# Altium footprint library connectors.PcbLib: 38 footprints (part 2 of 3)
Each footprint in its own frame and in the unit in brackets; x right, y up, seen from the top. Pads: shape width x height; smd on the part's side, far side on the other; paste and mask are expansions set on the pad; w line width, h text height; cw(c..) or ccw(c..) is an arc to the next point about the centre after c.
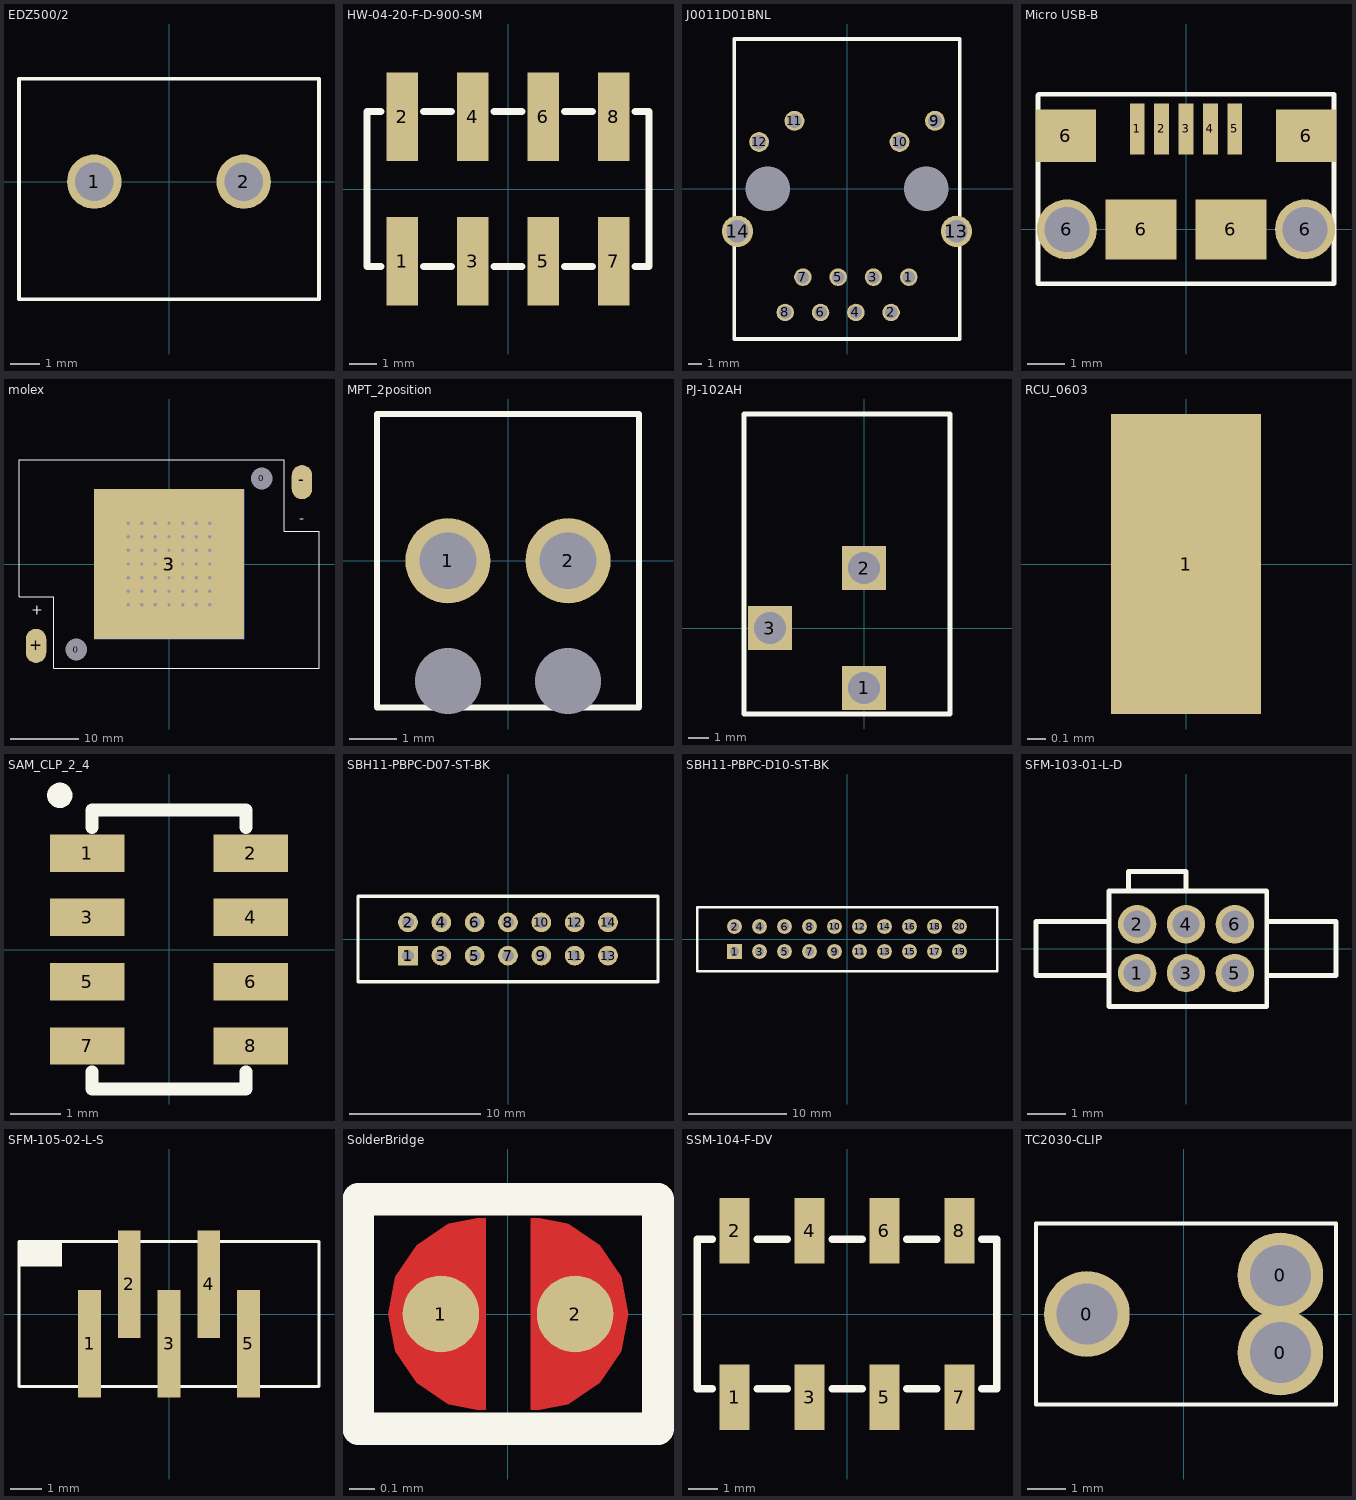
[diagram p1: the footprints below, top view; thin cyan lines are the x and y axes]

## EDZ500/2 [mm] "On Shore Tech. 200 mil, 2 pos, screw connector, blue"
pads (2):
  round 1.85 hole 1.3: 1(-2.54,0) 2(2.54,0)
Top Overlay:
  lines w0.127: -5.1,-4 5.1,-4 5.1,3.5 -5.1,3.5 -5.1,-4
3D body: height 10, standoff 0, extent -5.1,-4 5.1,3.5

## HW-04-20-F-D-900-SM [mm] "Samtec 100 mil 2x4 header"
pads (8):
  rect 1.14x3.175 smd: 1(-3.81,-2.602) 2(-3.81,2.603) 3(-1.27,-2.602) 4(-1.27,2.603) 5(1.27,-2.602) 6(1.27,2.603) 7(3.81,-2.602) 8(3.81,2.603)
Top Overlay:
  lines w0.254: -4.572,-2.794 -5.08,-2.794 -5.08,2.794 -4.572,2.794 ; -3.048,-2.794 -2.032,-2.794 ; -3.048,2.794 -2.032,2.794 ; -0.508,-2.794 0.508,-2.794 ; -0.508,2.794 0.508,2.794 ; 2.032,-2.794 3.048,-2.794 ; 2.032,2.794 3.048,2.794 ; 4.572,-2.794 5.08,-2.794 5.08,2.794 4.572,2.794
3D body: height 2.54, standoff 0, extent -5.08,-2.794 5.08,2.794
3D body: height 23, standoff 0, extent -4.115,0.965 -3.505,1.575
3D body: height 23, standoff 0, extent -1.575,0.965 -0.965,1.575
3D body: height 23, standoff 0, extent 0.965,0.965 1.575,1.575
3D body: height 23, standoff 0, extent 3.505,0.965 4.115,1.575
3D body: height 23, standoff 0, extent -4.115,-1.575 -3.505,-0.965
3D body: height 23, standoff 0, extent -1.575,-1.575 -0.965,-0.965
3D body: height 23, standoff 0, extent 0.965,-1.575 1.575,-0.965
3D body: height 23, standoff 0, extent 3.505,-1.575 4.115,-0.965

## J0011D01BNL [mm] "Pulse Electronic RJ45 Jack"
pads (16):
  round 1.26 hole 0.9: 1(4.445,-6.35) 2(3.175,-8.89) 3(1.905,-6.35) 4(0.635,-8.89) 5(-0.635,-6.35) 6(-1.905,-8.89) 7(-3.175,-6.35) 8(-4.445,-8.89)
  round 1.43 hole 1.02: 9(6.325,4.9) 10(3.785,3.38) 11(-3.785,4.9) 12(-6.325,3.38)
  round 2.25 hole 1.6: 13(7.875,-3.05) 14(-7.875,-3.05)
  round 0 hole 3.2: ""(-5.715,0) ""(5.715,0)
Top Overlay:
  lines w0.254: -8.13,-10.8 -8.13,10.79 8.13,10.79 8.13,-10.8 -8.13,-10.8
3D body: height 13.57, standoff -3.94, extent -8.321,-10.547 8.279,10.8

## Micro USB-B [mm]
pads (11):
  rect 0.4x1.35 smd mask+0.1: 1(-1.3,2.675) 2(-0.65,2.675) 3(0,2.675) 4(0.65,2.675) 5(1.3,2.675)
  rect 1.6x1.4 smd mask+0.1: 6(-3.2,2.5) 6(3.2,2.5)
  round 1.6 hole 1.2: 6(-3.175,0) 6(3.175,0)
  rect 1.9x1.6 smd mask+0.1: 6(-1.2,0) 6(1.2,0)
Top Overlay:
  lines w0.127: -3.95,-1.45 -3.95,3.575 -3.925,3.6 3.95,3.6 3.95,-1.45 -3.95,-1.45
3D body: height 2.68, standoff -0.63, extent -4.1,-2.54 4.1,2.89

## molex [mm] "CREE LED holder"
pads (6):
  oval 1.7x2.8 hole 3.175: 0(-13.61,-12.54) 0(13.61,12.54)
  rect 22x22 smd: 3(0,0)
  rect 22x22 smd far side: 3(0,0)
  oval 3x5 smd: +(-19.5,-12) -(19.5,12)
via 0,6 diameter 1.016 hole 0.508
via 2,6 diameter 1.016 hole 0.508
via 4,6 diameter 1.016 hole 0.508
via 6,6 diameter 1.016 hole 0.508
via -2,6 diameter 1.016 hole 0.508
via -4,6 diameter 1.016 hole 0.508
via -6,6 diameter 1.016 hole 0.508
via 0,-6 diameter 1.016 hole 0.508
via 2,-6 diameter 1.016 hole 0.508
via 4,-6 diameter 1.016 hole 0.508
via 6,-6 diameter 1.016 hole 0.508
via -2,-6 diameter 1.016 hole 0.508
via -4,-6 diameter 1.016 hole 0.508
via -6,-6 diameter 1.016 hole 0.508
via 0,-4 diameter 1.016 hole 0.508
via 2,-4 diameter 1.016 hole 0.508
via 4,-4 diameter 1.016 hole 0.508
via 6,-4 diameter 1.016 hole 0.508
via -2,-4 diameter 1.016 hole 0.508
via -4,-4 diameter 1.016 hole 0.508
via -6,-4 diameter 1.016 hole 0.508
via 0,-2 diameter 1.016 hole 0.508
via 2,-2 diameter 1.016 hole 0.508
via 4,-2 diameter 1.016 hole 0.508
via 6,-2 diameter 1.016 hole 0.508
via -2,-2 diameter 1.016 hole 0.508
via -4,-2 diameter 1.016 hole 0.508
via -6,-2 diameter 1.016 hole 0.508
via 0,4 diameter 1.016 hole 0.508
via 2,4 diameter 1.016 hole 0.508
via 4,4 diameter 1.016 hole 0.508
via 6,4 diameter 1.016 hole 0.508
via -2,4 diameter 1.016 hole 0.508
via -4,4 diameter 1.016 hole 0.508
via -6,4 diameter 1.016 hole 0.508
via 0,2 diameter 1.016 hole 0.508
via 2,2 diameter 1.016 hole 0.508
via 4,2 diameter 1.016 hole 0.508
via 6,2 diameter 1.016 hole 0.508
via -2,2 diameter 1.016 hole 0.508
via -4,2 diameter 1.016 hole 0.508
via -6,2 diameter 1.016 hole 0.508
via -6,0 diameter 1.016 hole 0.508
via -4,0 diameter 1.016 hole 0.508
via -2,0 diameter 1.016 hole 0.508
via 6,0 diameter 1.016 hole 0.508
via 4,0 diameter 1.016 hole 0.508
via 2,0 diameter 1.016 hole 0.508
via 0,0 diameter 1.016 hole 0.508
Top Overlay:
  lines w0.1: -22,-4.775 -16.9,-4.775 -16.9,-15.3 22,-15.3 22,4.8 16.875,4.8 16.875,15.3 -22,15.3 -22,-4.775
  text "+" at -20.175,-7.425 h1.52
  text "-" at 19.075,5.975 h1.52
3D body: height 4.5, standoff 0, extent -22,-15.3 -11.925,15.3
3D body: height 1.91, standoff 0, extent -11.925,-11.925 11.925,11.925
3D body: height 4.5, standoff 0, extent 11.925,-15.3 22,15.3
3D body: height 4.5, standoff 0, extent -11.925,11.925 11.925,15.3
3D body: height 4.5, standoff 0, extent -11.925,-15.3 11.925,-11.925

## MPT_2position [mm] "Screw connector 2 pos"
pads (4):
  round 1.8 hole 1.2: 1(-1.27,0) 2(1.27,0)
  round 0 hole 1.4: ""(-1.27,-2.54) ""(1.27,-2.54)
Top Overlay:
  lines w0.127: -2.77,-3.1 -2.77,3.1 2.77,3.1 2.77,-3.1 -2.77,-3.1

## PJ-102AH [mm] "Power Jack"
pads (3):
  rect 2.2x2.2 hole 1.6: 1(0,-3) 2(0,3) 3(-4.7,0)
Top Overlay:
  lines w0.254: -6,-4.3 -6,0 -6,10.7 4.3,10.7 4.3,-4.3 -6,-4.3
3D body: height 3, standoff 0, extent -5.75,-3.987 4.075,10.888
3D body: height 8.39, standoff 0.01, extent -4.975,-3.85 3.392,9.15
3D body: height 10, standoff 0, extent -5.75,9.15 4.075,10.888

## RCU_0603 [mm]
pads (1):
  rect 0.8x1.6 smd: 1(0,0)
3D body: height 0.23, standoff 0, extent -0.4,-0.8 0.4,0.8
3D body: height 1.15, standoff 0.92, extent -0.4,-0.8 0.4,0.8
3D body: height 0.92, standoff 0.23, extent -0.4,0.575 0.4,0.8
3D body: height 0.92, standoff 0.23, extent -0.4,-0.8 0.4,-0.575

## SAM_CLP_2_4 [mm]
pads (8):
  rect 1.47x0.74 smd: 1(-1.615,1.905) 2(1.615,1.905) 3(-1.615,0.635) 4(1.615,0.635) 5(-1.615,-0.635) 6(1.615,-0.635) 7(-1.615,-1.905) 8(1.615,-1.905)
Top Overlay:
  circle w0.25: c-2.157,3.048 r0.125
  lines w0.254: -1.525,-2.413 -1.525,-2.755 1.525,-2.755 1.525,-2.413 ; -1.525,2.413 -1.525,2.755 1.525,2.755 1.525,2.413
3D body: height 2.29, standoff 0.25, extent -1.525,-2.755 1.525,2.755

## SBH11-PBPC-D07-ST-BK [mm] "CONN HEADER 2.54MM 14POS"
pads (14):
  rect 1.5x1.5 hole 0.9: 1(-7.62,-1.27)
  round 1.5 hole 0.9: 2(-7.62,1.27) 3(-5.08,-1.27) 4(-5.08,1.27) 5(-2.54,-1.27) 6(-2.54,1.27) 7(0,-1.27) 8(0,1.27) 9(2.54,-1.27) 10(2.54,1.27) 11(5.08,-1.27) 12(5.08,1.27) 13(7.62,-1.27) 14(7.62,1.27)
Top Overlay:
  lines w0.254: -11.43,-3.251 -11.43,3.251 11.43,3.251 11.43,-3.251 -11.43,-3.251
3D body: height 10.74, standoff 0, extent 2.54,-3.251 11.43,-2.87
3D body: height 10.74, standoff 0, extent -11.43,-3.251 -2.54,-2.87
3D body: height 10.74, standoff 0, extent -11.43,2.87 11.43,3.251
3D body: height 10.74, standoff 0, extent 11.049,-3.251 11.43,3.251
3D body: height 10.74, standoff 0, extent -11.43,-3.251 -11.049,3.251
3D body: height 10.11, standoff -3.2, extent 7.417,-1.473 7.823,-1.067
3D body: height 10.11, standoff -3.2, extent 7.417,1.067 7.823,1.473
3D body: height 10.11, standoff -3.2, extent 4.877,1.067 5.283,1.473
3D body: height 10.11, standoff -3.2, extent 4.877,-1.473 5.283,-1.067
3D body: height 10.11, standoff -3.2, extent 2.337,-1.473 2.743,-1.067
3D body: height 10.11, standoff -3.2, extent 2.337,1.067 2.743,1.473
3D body: height 10.11, standoff -3.2, extent -0.203,1.067 0.203,1.473
3D body: height 10.11, standoff -3.2, extent -0.203,-1.473 0.203,-1.067
3D body: height 10.11, standoff -3.2, extent -2.743,-1.473 -2.337,-1.067
3D body: height 10.11, standoff -3.2, extent -2.743,1.067 -2.337,1.473
3D body: height 10.11, standoff -3.2, extent -5.283,1.067 -4.877,1.473
3D body: height 10.11, standoff -3.2, extent -7.823,1.067 -7.417,1.473
3D body: height 10.11, standoff -3.2, extent -5.283,-1.473 -4.877,-1.067
3D body: height 10.11, standoff -3.2, extent -7.823,-1.473 -7.417,-1.067
3D body: height 2, standoff 0, extent -11.43,-3.251 11.43,3.251

## SBH11-PBPC-D10-ST-BK [mm] "CONN HEADER 2.54MM 20POS"
pads (20):
  rect 1.5x1.5 hole 0.9: 1(-11.43,-1.27)
  round 1.5 hole 0.9: 2(-11.43,1.27) 3(-8.89,-1.27) 4(-8.89,1.27) 5(-6.35,-1.27) 6(-6.35,1.27) 7(-3.81,-1.27) 8(-3.81,1.27) 9(-1.27,-1.27) 10(-1.27,1.27) 11(1.27,-1.27) 12(1.27,1.27) 13(3.81,-1.27) 14(3.81,1.27) 15(6.35,-1.27) 16(6.35,1.27) 17(8.89,-1.27) 18(8.89,1.27) 19(11.43,-1.27) 20(11.43,1.27)
Top Overlay:
  lines w0.254: -15.24,-3.251 15.24,-3.251 15.24,3.251 -15.24,3.251 -15.24,-3.251
3D body: height 10.11, standoff -3.2, extent -11.633,-1.473 -11.227,-1.067
3D body: height 10.11, standoff -3.2, extent -9.093,-1.473 -8.687,-1.067
3D body: height 10.11, standoff -3.2, extent -11.633,1.067 -11.227,1.473
3D body: height 10.11, standoff -3.2, extent -9.093,1.067 -8.687,1.473
3D body: height 10.11, standoff -3.2, extent -6.553,1.067 -6.147,1.473
3D body: height 10.11, standoff -3.2, extent -6.553,-1.473 -6.147,-1.067
3D body: height 10.11, standoff -3.2, extent -4.013,-1.473 -3.607,-1.067
3D body: height 10.11, standoff -3.2, extent -4.013,1.067 -3.607,1.473
3D body: height 10.11, standoff -3.2, extent -1.473,1.067 -1.067,1.473
3D body: height 10.11, standoff -3.2, extent -1.473,-1.473 -1.067,-1.067
3D body: height 10.11, standoff -3.2, extent 1.067,-1.473 1.473,-1.067
3D body: height 10.11, standoff -3.2, extent 1.067,1.067 1.473,1.473
3D body: height 10.11, standoff -3.2, extent 3.607,1.067 4.013,1.473
3D body: height 10.11, standoff -3.2, extent 3.607,-1.473 4.013,-1.067
3D body: height 2, standoff 0, extent -15.24,-3.251 15.24,3.251
3D body: height 10.11, standoff -3.2, extent 6.147,-1.473 6.553,-1.067
3D body: height 10.11, standoff -3.2, extent 6.147,1.067 6.553,1.473
3D body: height 10.11, standoff -3.2, extent 8.687,-1.473 9.093,-1.067
3D body: height 10.11, standoff -3.2, extent 8.687,1.067 9.093,1.473
3D body: height 10.11, standoff -3.2, extent 11.227,1.067 11.633,1.473
3D body: height 10.11, standoff -3.2, extent 11.227,-1.473 11.633,-1.067
3D body: height 10.74, standoff 0, extent -15.24,2.87 15.24,3.251
3D body: height 10.74, standoff 0, extent -15.24,-3.251 -2.54,-2.87
3D body: height 10.74, standoff 0, extent 2.54,-3.251 15.24,-2.87
3D body: height 10.74, standoff 0, extent 14.859,-3.251 15.24,3.251
3D body: height 10.74, standoff 0, extent -15.24,-3.251 -14.859,3.251

## SFM-103-01-L-D [mm] "Samtec throughhole tiger eye socket, 2 row 6 pos"
pads (6):
  round 1 hole 0.7: 1(-1.27,-0.635) 2(-1.27,0.635) 3(0,-0.635) 4(0,0.635) 5(1.27,-0.635) 6(1.27,0.635)
Top Overlay:
  lines w0.127: -2,-0.7 -3.9,-0.7 -3.9,0.7 -2,0.7 ; -1.5,1.5 -1.5,2 0,2 0,1.5 ; 2.1,-0.7 3.9,-0.7 3.9,0.7 2.1,0.7 ; -2,-1.5 2.1,-1.5 2.1,-1 2.1,1.5 -2,1.5 -2,-1.5
3D body: height 4.57, standoff -3.05, extent -3.873,-1.524 3.874,2.159

## SFM-105-02-L-S [mm] "Samtec TFM, single row, 5 pos"
pads (5):
  rect 0.73x3.43 smd: 1(-2.54,-0.95) 2(-1.27,0.95) 3(0,-0.95) 4(1.27,0.95) 5(2.54,-0.95)
Top Overlay:
  rectangle: -4.8,1.524 -3.429,2.325
  lines w0.1: -4.8,-2.325 4.8,-2.325 4.8,2.325 -4.8,2.325 -4.8,-2.325
3D body: height 4.57, standoff 0.38, extent -3.375,0.9 -1.35,1.525
3D body: height 4.57, standoff 0.38, extent -3.375,-0.9 3.375,0.9
3D body: height 2.79, standoff 0, extent 3.375,-0.65 5.15,0.65
3D body: height 2.79, standoff 0, extent -5.15,-0.65 -3.375,0.65

## SolderBridge [mm]
pads (2):
  round 0.3 smd: 1(-0.263,0) 2(0.263,0)
Top Layer:
  region: 0.09,0.375 0.127,0.375 0.236,0.353 0.36,0.27 0.443,0.146 0.472,0 0.443,-0.146 0.36,-0.27 0.236,-0.353 0.127,-0.375 0.09,-0.375
  region: -0.088,-0.375 -0.125,-0.375 -0.234,-0.353 -0.358,-0.27 -0.441,-0.146 -0.47,0 -0.441,0.146 -0.358,0.27 -0.234,0.353 -0.125,0.375 -0.088,0.375
Top Overlay:
  lines w0.127: -0.588,-0.45 0.588,-0.45 0.588,0.45 -0.588,0.45 -0.588,-0.45

## SSM-104-F-DV [mm] "Samtec 100 mil 2x4 female connector"
pads (8):
  rect 1.02x2.22 smd: 1(-3.81,-2.825) 2(-3.81,2.825) 3(-1.27,-2.825) 4(-1.27,2.825) 5(1.27,-2.825) 6(1.27,2.825) 7(3.81,-2.825) 8(3.81,2.825)
Top Overlay:
  lines w0.254: -4.572,-2.54 -5.08,-2.54 -5.08,2.54 -4.572,2.54 ; -3.048,-2.54 -2.032,-2.54 ; -3.048,2.54 -2.032,2.54 ; -0.508,-2.54 0.508,-2.54 ; -0.508,2.54 0.508,2.54 ; 2.032,-2.54 3.048,-2.54 ; 2.032,2.54 3.048,2.54 ; 4.572,-2.54 5.08,-2.54 5.08,2.54 4.572,2.54
3D body: height 7.37, standoff 0, extent -5.08,-2.54 5.08,2.54

## TC2030-CLIP [mm]
pads (3):
  round 2.25 hole 1.6 mask+2: 0(-2.54,0) 0(2.54,-1.016) 0(2.54,1.016)
Top Overlay:
  lines w0.1: -3.875,-2.375 -3.875,2.375 4,2.375 4,-2.375 -3.875,-2.375